# Altium schematic symbol library Diodes.SchLib: 5 symbols
Pins are listed as number, name and electrical type; pins without a type are passive.

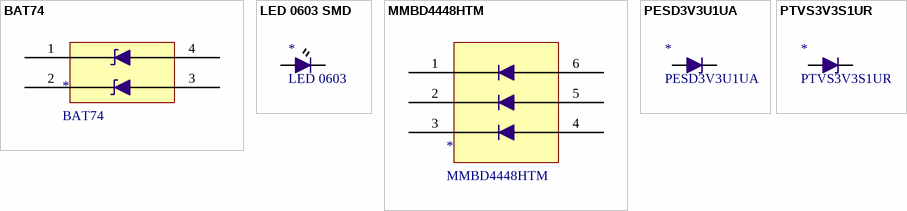
[diagram p0: symbols BAT74 to PTVS3V3S1UR]

## BAT74
designator *
Barrier Schotkky Double Diode; Supplier 1: Digi-Key; Supplier Part Number 1: 1727-2906-1-ND
footprint SOT190P230X110-4N (SOT143, 4-Leads, Body 2.90x2.30mm, Pitch 1.90mm, IPC Medium Density)
pins: 1, 2, 3, 4

## LED 0603 SMD
designator *, comment LED 0603
LED 0603 SMD; Supplier 1: Digi-Key; Supplier Part Number 1: 732-4966-1-ND
footprint LED0603-IPC
pins: A, K

## MMBD4448HTM
designator *
Tri-Diode Fast Switching Array; Supplier 1: Digi-Key; Supplier Part Number 1: MMBD4448HTM-FDICT-ND
footprint SOT95P285X140-6N (SOT23, 6-Leads, Body 3.00x2.85mm, Pitch 0.95mm, IPC Medium Density)
pins: 1, 2, 3, 4, 5, 6

## PESD3V3U1UA
designator *
3V3 TVS Diode, Vbr 5.6V; Supplier 1: Digi-Key; Supplier Part Number 1: 1727-4152-6-ND
footprint SOD323 (SODFL, 2-Leads, Body 1.25x2.50mm, IPC Medium Density)
pins: 1, 2

## PTVS3V3S1UR
designator *
3V3 TVS Diode, Vbr 5V2; Supplier 2: Digi-Key; Supplier 1: Digikey; Supplier Part Number 2: 1727-5228-1-ND
footprint SOD123W (SOD, 2-Leads, Body 1.70x3.50mm, IPC Medium Density)
pins: 1, 2